# Altium footprint library MAX30102Module.PcbLib: 1 footprints
Each footprint in its own frame and in the unit in brackets; x right, y up, seen from the top. Pads: shape width x height; smd on the part's side, far side on the other; paste and mask are expansions set on the pad; w line width, h text height; cw(c..) or ccw(c..) is an arc to the next point about the centre after c.
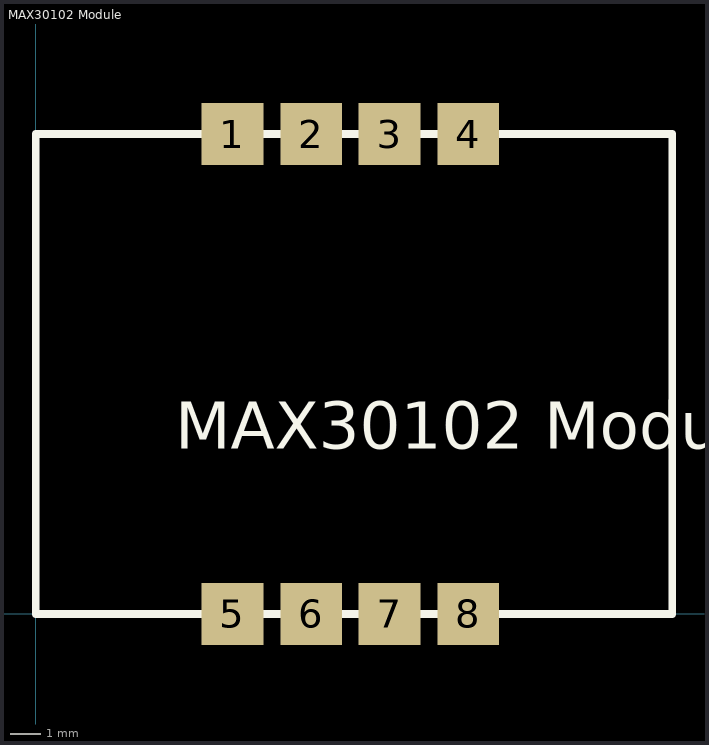
[diagram p0: the footprint, top view; thin cyan lines are the x and y axes]

## MAX30102 Module [mm]
pads (8):
  rect 2x2 smd: 1(6.35,15.5) 2(8.9,15.5) 3(11.43,15.5) 4(13.97,15.5) 5(6.35,0) 6(8.9,0) 7(11.43,0) 8(13.97,0)
Top Overlay:
  lines w0.254: 0,0 20.56,0 20.56,15.5 0,15.5 0,0
  text "MAX30102 Module" at 4.508,5.334 h1.52